# EAGLE library part VCNL4000 (library microbuilder)
VCNL4000 - I²C Proximity and Light Sensor Supply: 2.5-3.6V Proximity: up to 200mm Luminosity: 0.25 to 16,000 lux (16-bit values) Digikey: 751-1505-1-ND
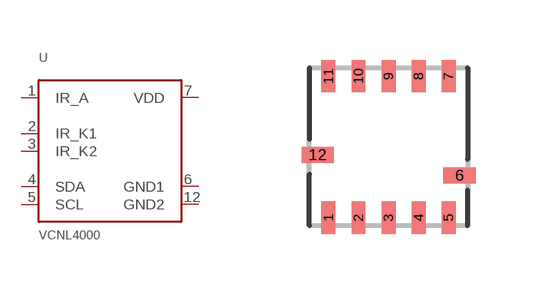
[diagram p112: symbol with the pads of VCNL4000; footprint VCNL4000]

Designator prefix U

## VCNL4000  [VCNL4000]
1  IR_A
2  IR_K1
3  IR_K2
4  SDA
5  SCL
6  GND1
7  VDD
12  GND2

## Footprint VCNL4000 (pad centres in mm)
Source: http://www.vishay.com/docs/83798/vcnl4000.pdf
smd 0.35 x 0.805: 1 -1.5,-1.772; 2 -0.75,-1.772; 3 0,-1.772; 4 0.75,-1.772; 5 1.5,-1.772; 7 1.5,1.772; 8 0.75,1.772; 9 0,1.772; 10 -0.75,1.772; 11 -1.5,1.772
smd 0.805 x 0.4: 6 1.772,-0.715; 12 -1.772,-0.2